# Altium integrated library Simulation Generic Components.IntLib: 218 symbols (part 6 of 7)
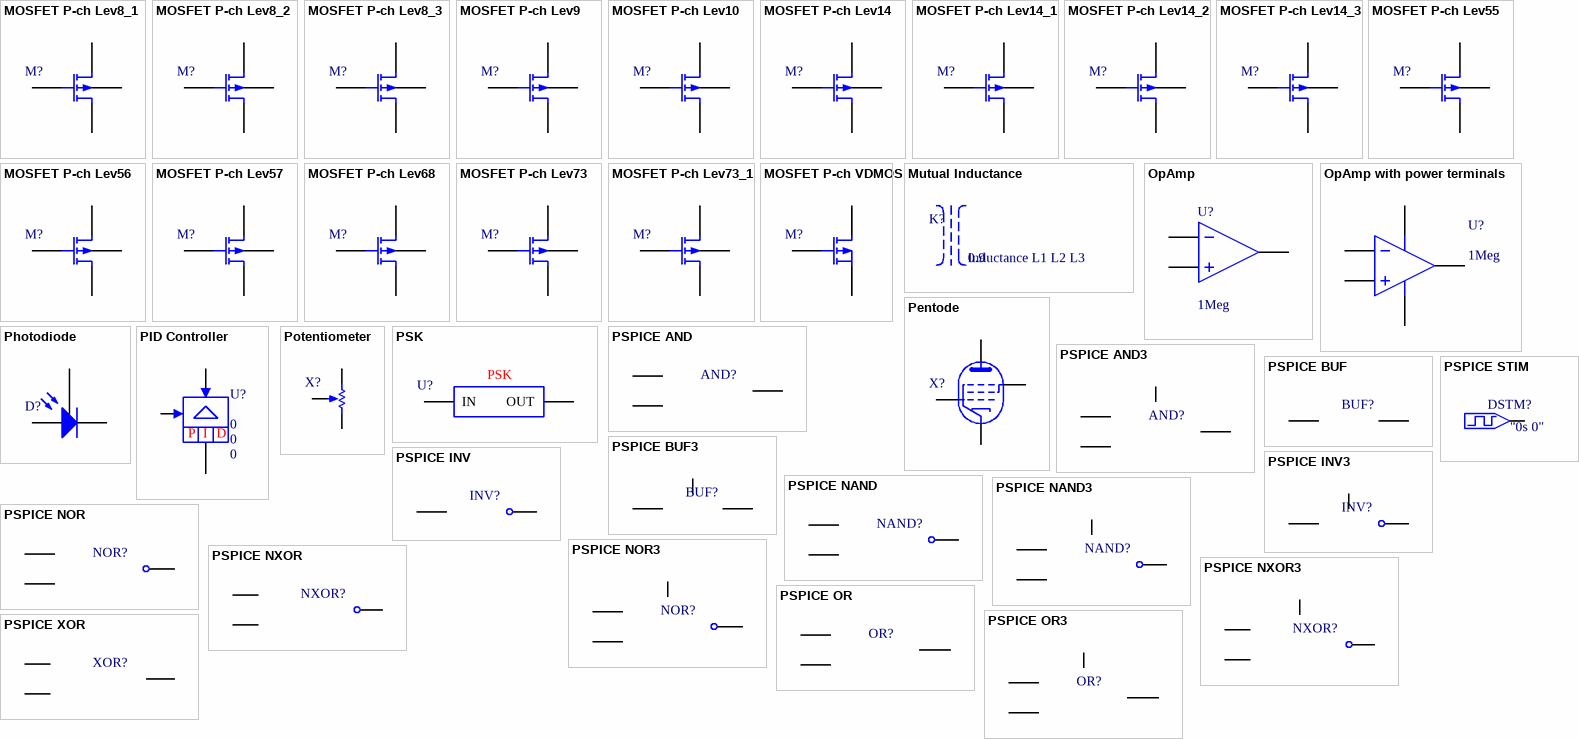
[diagram p10: symbols MOSFET P-ch Lev8_1 to PSPICE XOR]

## MOSFET P-ch Lev57
designator M?, comment P-channel MOSFET BSIM3SOI_PD Model  (value not drawn)
A0: 1; A1: 0; ALPHAGB1: 0.35; ALPHAGB2: 0.43; ASD: 0.3; AT: 33000; BETA2: 0.1; BETAGB1: 0.03; BETAGB2: 0.05; CAPMOD: 2; CDSC: 0.00024; CF: 8.16367e-11; CGDO: 2.07188e-10; CJSWG: 1e-10; CKAPPA: 0.6; CLC: 1e-08; DELTA: 0.01; DELTAVOX: 0.005; DROUT: 0.56; DVT0: 2.2; DVT1: 0.53; DVT1W: 5.3e06; DVT2: -0.032; EBG: 1.2; EM: 4.1e07; ESATII: 1e07; ETA0: 0.08; ETAB: -0.07; ISBJT: 1e-06; ISREC: 1e-05; KETA: -0.6; KT1: -0.11; KT2: 0.022; LBJT0: 2e-07; LN: 2e-06; MJSWG: 0.5; MOIN: 15; NCH: 1.7e17; NDIF: -1; NLX: 1.74e-07; NOIA: 1e20; NOIB: 50000; NOIC: -1.4e-12; NRECR0: 10; NSUB: 6e16; PBSWG: 0.7; PCLM: 1.3; PDIBLC1: 0.39; PDIBLC2: 0.0086; RDSW: 100; RHALO: 1e15; TBOX: 3e-07; TNOM: 300.15; TOXREF: 2.5e-09; TSI: 1e-07; TT: 1e-12; U0: 0.067; UA: 2.25e-09; UA1: 4.31e-09; UB: 5.87e-19; UB1: -7.61e-18; UC: -4.65e-11; UC1: -5.6e-11; UTE: -1.5; VBM: -3; VDSATII0: 0.9; VECB: 0.026; VEVB: 0.075; VGB1: 300; VGB2: 17; VOFF: -0.08; VOXH: 5; VSAT: 80000; W0: 2.5e-06; XT: 1.55e-07; SimulationGenericComponent: True; A2: 1; ACDE: 1; AELY: 0; AF: 1; AGIDL: 0; AGS: 0; AHLI: 0; ALPHA0: 0; B0: 0; B1: 0; BETA0: 0; BETA1: 0; BGIDL: 0; BINUNIT: 1; CDSCB: 0; CDSCD: 0; CGDL: 0; CGEO: 0; CGSL: 0; CGSO: 2.07188e-10; CIT: 0; CLE: 0; CSDESW: 0; CSDMIN: 0; DELVT: 0; DLBG: 0; DLC: 0; DLCB: 0; DSUB: 0.56; DTOXCV: 0; DVT0W: 0; DVT2W: -0.032; DWB: 0; DWBC: 0; DWC: 0; DWG: 0; EF: 1; FBJTII: 0; FBODY: 1; GAMMA1: 0; GAMMA2: 0; IGMOD: 0; ISDIF: 0; ISTUN: 0; K1: 0; K1W1: 0; K1W2: 0; K2: 0; K3: 0; K3B: 0; KB1: 1; KETAS: 0; KF: 0; KT1L: 0; LA0: 0; LA1: 0; LA2: 0; LACDE: 0; LAELY: 0; LAGIDL: 0; LAGS: 0; LAHLI: 0; LALPHA0: 0; LB0: 0; LB1: 0; LBETA0: 0; LBETA1: 0; LBETA2: 0; LBGIDL: 0; LCDSC: 0; LCDSCB: 0; LCDSCD: 0; LCIT: 0; LDELTA: 0; LDELVT: 0; LDIF0: 1; LDROUT: 0; LDSUB: 0; LDVT0: 0; LDVT0W: 0; LDVT1: 0; LDVT1W: 0; LDVT2: 0; LDVT2W: 0; LDWB: 0; LDWG: 0; LESATII: 0; LETA0: 0; LETAB: 0; LFBJTII: 0; LII: 0; LINT: 0; LISBJT: 0; LISDIF: 0; LISREC: 0; LISTUN: 0; LK1: 0; LK1W1: 0; LK1W2: 0; LK2: 0; LK3: 0; LK3B: 0; LKB1: 0; LKETA: 0; LKETAS: 0; LL: 0; LLBJT0: 0; LLC: 0; LLII: 0; LLN: 1; LMOIN: 0; LNBJT: 0; LNCH: 0; LNDIODE: 0; LNFACTOR: 0; LNGATE: 0; LNGIDL: 0; LNLX: 0; LNRECF0: 0; LNRECR0: 0; LNSUB: 0; LNTUN: 0; LPCLM: 0; LPDIBLC1: 0; LPDIBLC2: 0; LPDIBLCB: 0; LPRWB: 0; LPRWG: 0; LPVAG: 0; LRDSW: 0; LSII0: 0; LSII1: 0; LSII2: 0; LSIID: 0; LU0: 0; LUA: 0; LUB: 0; LUC: 0; LVABJT: 0; LVDSATII0: 0; LVOFF: 0; LVREC0: 0; LVSAT: 0; LVSDFB: 0; LVSDTH: 0; LVTH0: 0; LVTUN0: 0; LW: 0; LW0: 0; LWC: 0; LWL: 0; LWLC: 0; LWN: 1; LWR: 0; MOBMOD: 1; NBJT: 1; NDIODE: 1; NFACTOR: 1; NGATE: 0; NGIDL: 1.2; NOIF: 1; NOIMOD: 1; NRECF0: 2; NTOX: 1; NTRECF: 0; NTRECR: 0; NTUN: 10; PA0: 0; PA1: 0; PA2: 0; PACDE: 0; PAELY: 0; PAGIDL: 0; PAGS: 0; PAHLI: 0; PALPHA0: 0; PARAMCHK: 0; PB0: 0; PB1: 0; PBETA0: 0; PBETA1: 0; PBETA2: 0; PBGIDL: 0; PCDSC: 0; PCDSCB: 0; PCDSCD: 0; PCIT: 0; PDELTA: 0; PDELVT: 0; PDIBLCB: 0; PDROUT: 0; PDSUB: 0; PDVT0: 0; PDVT0W: 0; PDVT1: 0; PDVT1W: 0; PDVT2: 0; PDVT2W: 0; PDWB: 0; PDWG: 0; PESATII: 0; PETA0: 0; PETAB: 0; PFBJTII: 0; PISBJT: 0; PISDIF: 0; PISREC: 0; PISTUN: 0; PK1: 0; PK1W1: 0; PK1W2: 0; PK2: 0; PK3: 0; PK3B: 0; PKB1: 0; PKETA: 0; PKETAS: 0; PLBJT0: 0; PLII: 0; PMOIN: 0; PNBJT: 0; PNCH: 0; PNDIODE: 0; PNFACTOR: 0; PNGATE: 0; PNGIDL: 0; PNLX: 0; PNRECF0: 0; PNRECR0: 0; PNSUB: 0; PNTUN: 0; PPCLM: 0; PPDIBLC1: 0; PPDIBLC2: 0; PPDIBLCB: 0; PPRWB: 0; PPRWG: 0; PPVAG: 0; PRDSW: 0; PRT: 0; PRWB: 0; PRWG: 0; PSII0: 0; PSII1: 0; PSII2: 0; PSIID: 0; PU0: 0; PUA: 0; PUB: 0; PUC: 0; PVABJT: 0; PVAG: 0; PVDSATII0: 0; PVOFF: 0; PVREC0: 0; PVSAT: 0; PVSDFB: 0; PVSDTH: 0; PVTH0: 0; PVTUN0: 0; PW0: 0; PWR: 0; RBODY: 0; RBSH: 0; RSH: 0; SHMOD: 0; SII0: 0.5; SII1: 0.1; SII2: 0; SIID: 0; TCJSWG: 0; TII: 0; TOX: 1e-08; TOXQM: 1e-08; TPBSWG: 0; VABJT: 10; VBX: 0; VERSION: 2; VREC0: 0; VSDFB: 0; VSDTH: 0; VTH0: 0.7; VTUN0: 0; WA0: 0; WA1: 0; WA2: 0; WACDE: 0; WAELY: 0; WAGIDL: 0; WAGS: 0; WAHLI: 0; WALPHA0: 0; WB0: 0; WB1: 0; WBETA0: 0; WBETA1: 0; WBETA2: 0; WBGIDL: 0; WCDSC: 0; WCDSCB: 0; WCDSCD: 0; WCIT: 0; WDELTA: 0; WDELVT: 0; WDROUT: 0; WDSUB: 0; WDVT0: 0; WDVT0W: 0; WDVT1: 0; WDVT1W: 0; WDVT2: 0; WDVT2W: 0; WDWB: 0; WDWG: 0; WESATII: 0; WETA0: 0; WETAB: 0; WFBJTII: 0; WINT: 0; WISBJT: 0; WISDIF: 0; WISREC: 0; WISTUN: 0; WK1: 0; WK1W1: 0; WK1W2: 0; WK2: 0; WK3: 0; WK3B: 0; WKB1: 0; WKETA: 0; WKETAS: 0; WL: 0; WLBJT0: 0; WLC: 0; WLII: 0; WLN: 1; WMOIN: 0; WNBJT: 0; WNCH: 0; WNDIODE: 0; WNFACTOR: 0; WNGATE: 0; WNGIDL: 0; WNLX: 0; WNRECF0: 0; WNRECR0: 0; WNSUB: 0; WNTUN: 0; WPCLM: 0; WPDIBLC1: 0; WPDIBLC2: 0; WPDIBLCB: 0; WPRWB: 0; WPRWG: 0; WPVAG: 0; WR: 1; WRDSW: 0; WSII0: 0; WSII1: 0; WSII2: 0; WSIID: 0; WTH0: 0; WU0: 0; WUA: 0; WUB: 0; WUC: 0; WVABJT: 0; WVDSATII0: 0; WVOFF: 0; WVREC0: 0; WVSAT: 0; WVSDFB: 0; WVSDTH: 0; WVTH0: 0; WVTUN0: 0; WW: 0; WW0: 0; WWC: 0; WWL: 0; WWLC: 0; WWN: 1; WWR: 0; XBJT: 1; XDIF: 1; XPART: 0; XREC: 1; XTUN: 0
simulation model PMOSFET_BSIM3SOI_PD (BSIM3SOI_PD)
pins: 1 D, 2 G, 3 S, 4 B

## MOSFET P-ch Lev68
designator M?, comment P-channel MOSFET HISIM2 Model  (value not drawn)
LOVER: 3e-08; BB: 2; BGTMP1: 9.025e-05; BGTMP2: 1e-07; BS1: 0; BS2: 0.9; CJ: 0.0005; CJSW: 5e-10; CLM1: 0.7; CLM3: 1; DDLTMAX: 10; DDRIFT: 1e-06; DEPLEAK: 0.5; DEPMUE0: 1000; DEPMUEBACK0: 100; DEPMUEPH0: 0.3; DEPMUEPH1: 5000; DEPMUETMP: 1.5; DEPVMAX: 3e07; DLY1: 1e-10; DLY3: 8e-07; EG0: 1.1785; FN1: 50; FN2: 0.00017; FVBS: 0.012; GBMIN: 1e-12; GIDL5: 0.2; GLEAK2: 1e07; GLEAK3: 0.06; GLEAK4: 4; GLEAK5: 7500; GLEAK6: 0.25; GLKB1: 5e-16; GLKSD1: 1e-15; GLKSD2: 5e06; GLKSD3: -5e06; IBPC1LP: -1; JS0: 5e-07; KAPPA: 3.9; LP: 1.5e-08; LPEXT: 1e-50; MJSW: 0.33; MUEPH1: 25000; MUESR1: 1e15; NDEPM: 1e17; NFALP: 1e-19; NFTRP: 1e10; NOVER: 1e19; NPEXT: 5e17; NSUBP: 1e18; OVMAG: 0.6; OVSLP: 2.1e-07; PARL2: 1e-08; PTP: 3.5; PZADD0: 0.02; RD23: 0.005; RDRQOVER: 100000; RDVD: 0.07; RTH0: 0.1; SHEMAX: 500; SUB1L: 0.0025; SUB2: 25; SUB2L: 2e-06; SVDS: 0.8; TNDEP: 2e-07; TNOM: 27; TOX: 3e-09; VBD_MAX: 1e99; VBI: 1.1; VBSMIN: -10.5; VDIFFJ: 0.0006; VGSMIN: -5; SimulationGenericComponent: True; CGBO: 0; CGDO: 0; CGSO: 0; CISB: 0; CISBD: 0; CISBK: 0; CISBKD: 0; CISBKS: 0; CISBS: 0; CIT: 0; CJD: 0.0005; CJS: 0.0005; CJSWD: 5e-10; CJSWG: 5e-10; CJSWGD: 5e-10; CJSWGS: 5e-10; CJSWS: 5e-10; CLM2: 2; CLM5: 1; CLM6: 0; COADOV: 1; CODDLT: 1; CODEP: 0; CODFM: 0; COERRREP: 1; COFLICK: 0; COGIDL: 0; COIGN: 0; COIIGS: 0; COIPRV: 1; COISTI: 0; COISUB: 0; COLDRIFT: 1; CONQS: 0; COOVLP: 1; COOVLPS: 0; COPPRV: 1; COQOVSM: 1; CORDRIFT: 1; CORSRD: 0; COSYM: 0; COTEMP: 0; COTHRML: 0; CTEMP: 0; CTEMPD: 0; CTEMPS: 0; CTH0: 1e-07; CVB: 0; CVBD: 0; CVBK: 0; CVBS: 0; CVDSOVER: 0; DDLTICT: 0; DDLTSLP: 10; DEPBB: 1; DEPETA: 0; DEPMUE1: 0; DEPMUEBACK1: 0; DEPVDSEF1: 2; DEPVDSEF2: 0.5; DEPVTMP: 0; DIVX: 0; DIVXD: 0; DIVXS: 0; DLY2: 0.7; DLYOV: 0; EGIG: 0; FALPH: 1; FN3: 0; GDL: 0; GDLD: 0; GDLP: 0; GDSLEAK: 0; GIDL1: 2; GIDL2: 3e07; GIDL3: 0.9; GIDL4: 0; GLEAK1: 50; GLEAK7: 1e-06; GLKB2: 1; GLKB3: 0; GLPART1: 0.5; IBPC1: 0; IBPC1L: 0; IBPC2: 0; IGTEMP2: 0; IGTEMP3: 0; INFO: 0; ISBREAK: 1e-12; JS0D: 5e-07; JS0S: 5e-07; JS0SW: 0; JS0SWD: 0; JS0SWS: 0; LBGTMP1: 0; LBGTMP2: 0; LBINN: 1; LCGBO: 0; LCGDO: 0; LCGSO: 0; LCISBK: 0; LCISBKD: 0; LCISBKS: 0; LCLM1: 0; LCLM2: 0; LCLM3: 0; LCVDSOVER: 0; LEG0: 0; LEVEL: 0; LFALPH: 0; LFN1: 0; LFN2: 0; LFN3: 0; LFVBS: 0; LGIDL1: 0; LGIDL2: 0; LGLEAK1: 0; LGLEAK2: 0; LGLEAK3: 0; LGLEAK6: 0; LGLKB1: 0; LGLKB2: 0; LGLKSD1: 0; LGLKSD2: 0; LIBPC1: 0; LIBPC2: 0; LJS0: 0; LJS0D: 0; LJS0S: 0; LJS0SW: 0; LJS0SWD: 0; LJS0SWS: 0; LL: 0; LLD: 0; LLN: 0; LMAX: 1; LMIN: 0; LMUECB0: 0; LMUECB1: 0; LMUEPH1: 0; LMUESR1: 0; LMUESTI1: 0; LMUESTI2: 0; LMUESTI3: 0; LMUETMP: 0; LNDEP: 0; LNFALP: 0; LNFTRP: 0; LNINV: 0; LNJ: 0; LNJD: 0; LNJS: 0; LNOVER: 0; LNOVERS: 0; LNPEXT: 0; LNSTI: 0; LNSUBC: 0; LNSUBP: 0; LNSUBPSTI1: 0; LNSUBPSTI2: 0; LNSUBPSTI3: 0; LPGD1: 0; LPOWRAT: 0; LRD: 0; LRD22: 0; LRD23: 0; LRD24: 0; LRDICT1: 0; LRDOV13: 0; LRDSLP1: 0; LRDVB: 0; LRDVD: 0; LRDVG11: 0; LRS: 0; LRTH0: 0; LSC1: 0; LSC2: 0; LSC3: 0; LSCP1: 0; LSCP2: 0; LSCP3: 0; LSCSTI1: 0; LSCSTI2: 0; LSUB1: 0; LSUB2: 0; LSVBS: 0; LSVDS: 0; LSVGS: 0; LVDIFFJ: 0; LVDIFFJD: 0; LVDIFFJS: 0; LVFBC: 0; LVFBOVER: 0; LVMAX: 0; LVOVER: 0; LVTHSTI: 0; LVTMP: 0; LWFC: 0; LWL2: 0; LWSTI: 0; LWVTH0: 0; MJ: 0.5; MJD: 0.5; MJS: 0.5; MJSWD: 0.33; MJSWG: 0.33; MJSWGD: 0.33; MJSWGS: 0.33; MJSWS: 0.33; MUECB0: 1000; MUECB1: 100; MUEPH0: 0.3; MUEPHL: 0; MUEPHS: 0; MUEPHW: 0; MUEPLP: 1; MUEPSP: 1; MUEPWP: 1; MUESLP: 1; MUESR0: 2; MUESRL: 0; MUESRW: 0; MUESTI1: 0; MUESTI2: 0; MUESTI3: 1; MUESWP: 1; MUETMP: 1.5; NDEP: 1; NDEPL: 0; NDEPLP: 1; NINV: 0.5; NINVD: 0; NINVDT1: 0; NINVDT2: 0; NINVDW: 0; NINVDWP: 1; NJ: 1; NJD: 1; NJS: 1; NJSW: 1; NJSWD: 1; NJSWS: 1; NOISE: 1; NOVERS: 1e17; NSTI: 5e17; NSUBC: 5e17; NSUBCW: 0; NSUBCWP: 1; NSUBP0: 0; NSUBPSTI1: 0; NSUBPSTI2: 0; NSUBPSTI3: 1; NSUBSUB: 1e15; NSUBWP: 1; PB: 1; PBD: 1; PBGTMP1: 0; PBGTMP2: 0; PBS: 1; PBSW: 1; PBSWD: 1; PBSWG: 1; PBSWGD: 1; PBSWGS: 1; PBSWS: 1; PCGBO: 0; PCGDO: 0; PCGSO: 0; PCISBK: 0; PCISBKD: 0; PCISBKS: 0; PCLM1: 0; PCLM2: 0; PCLM3: 0; PCVDSOVER: 0; PEG0: 0; PFALPH: 0; PFN1: 0; PFN2: 0; PFN3: 0; PFVBS: 0; PGD1: 0; PGD2: 0.3; PGD4: 0; PGIDL1: 0; PGIDL2: 0; PGLEAK1: 0; PGLEAK2: 0; PGLEAK3: 0; PGLEAK6: 0; PGLKB1: 0; PGLKB2: 0; PGLKSD1: 0; PGLKSD2: 0; PIBPC1: 0; PIBPC2: 0; PJS0: 0; PJS0D: 0; PJS0S: 0; PJS0SW: 0; PJS0SWD: 0; PJS0SWS: 0; PMUECB0: 0; PMUECB1: 0; PMUEPH1: 0; PMUESR1: 0; PMUESTI1: 0; PMUESTI2: 0; PMUESTI3: 0; PMUETMP: 0; PNDEP: 0; PNFALP: 0; PNFTRP: 0; PNINV: 0; PNJ: 0; PNJD: 0; PNJS: 0; PNOVER: 0; PNOVERS: 0; PNPEXT: 0; PNSTI: 0; PNSUBC: 0; PNSUBP: 0; PNSUBPSTI1: 0; PNSUBPSTI2: 0; PNSUBPSTI3: 0; POWRAT: 1; PPGD1: 0; PPOWRAT: 0; PRATTEMP1: 0; PRATTEMP2: 0; PRD: 0; PRD22: 0; PRD23: 0; PRD24: 0; PRDICT1: 0; PRDOV13: 0; PRDSLP1: 0; PRDVB: 0; PRDVD: 0; PRDVG11: 0; PRS: 0; PRTH0: 0; PSC1: 0; PSC2: 0; PSC3: 0; PSCP1: 0; PSCP2: 0; PSCP3: 0; PSCSTI1: 0; PSCSTI2: 0; PSUB1: 0; PSUB2: 0; PSVBS: 0; PSVDS: 0; PSVGS: 0; PT2: 0; PT4: 0; PT4P: 1; PTL: 0; PTLP: 1; PVDIFFJ: 0; PVDIFFJD: 0; PVDIFFJS: 0; PVFBC: 0; PVFBOVER: 0; PVMAX: 0; PVOVER: 0; PVTHSTI: 0; PVTMP: 0; PWFC: 0; PWL2: 0; PWSTI: 0; PWVTH0: 0; QDFTVD: 1; QME1: 0; QME2: 2; QME3: 0; QOVADD: 0; RD: 0; RD20: 0; RD21: 1; RD22: 0; RD22D: 0; RD23L: 0; RD23LP: 1; RD23S: 0; RD23SP: 1; RD24: 0; RD25: 0; RDICT1: 1; RDICT2: 0; RDOV11: 0; RDOV12: 1; RDOV13: 1; RDRBB: 1; RDRBBTMP: 0; RDRCAR: 1e-08; RDRCX: 0; RDRDJUNC: 1e-06; RDRDL1: 0; RDRDL2: 0; RDRMUE: 1000; RDRMUEL: 0; RDRMUELP: 1; RDRMUETMP: 0; RDRVMAX: 3e07; RDRVMAXL: 0; RDRVMAXLP: 1; RDRVMAXW: 0; RDRVMAXWP: 1; RDRVTMP: 0; RDS: 0; RDSLP1: 0; RDSLP2: 1; RDSP: 1; RDTEMP1: 0; RDTEMP2: 0; RDVB: 0; RDVDL: 0; RDVDLP: 1; RDVDS: 0; RDVDSP: 1; RDVDSUB: 0.3; RDVDTEMP1: 0; RDVDTEMP2: 0; RDVG11: 0; RDVG12: 100; RDVSUB: 1; RS: 0; RSH: 0; RSHG: 0; RTH0NF: 0; RTH0R: 0; RTH0W: 0; RTH0WP: 1; RTHTEMP1: 0; RTHTEMP2: 0; RWELL: 1000; SAREF: 1e-06; SBREF: 1e-06; SC1: 1; SC2: 0; SC3: 0; SC4: 0; SCP1: 1; SCP2: 0; SCP21: 0; SCP22: 0; SCP3: 0; SCSTI1: 0; SCSTI2: 0; SHOW: 0; SLG: 3e-08; SLGL: 0; SLGLP: 1; SUB1: 10; SUB1LP: 1; SUBLD1L: 0; SUBLD1LP: 1; SVBS: 0.5; SVBSL: 0; SVBSLP: 1; SVGS: 0.8; SVGSL: 0; SVGSLP: 1; SVGSW: 0; SVGSWP: 1; TCJBD: 0; TCJBDSW: 0; TCJBDSWG: 0; TCJBS: 0; TCJBSSW: 0; TCJBSSWG: 0; TPOLY: 2e-07; VBDR_MAX: 1e99; VBISUB: 0.7; VBS_MAX: 1e99; VBSR_MAX: 1e99; VDIFFJD: 0.0006; VDIFFJS: 0.0006; VDS_MAX: 1e99; VDSTI: 0; VERSION: 280; VFBC: -1; VFBOVER: 0; VGB_MAX: 1e99; VGBR_MAX: 1e99; VGD_MAX: 1e99; VGDR_MAX: 1e99; VGS_MAX: 1e99; VGSR_MAX: 1e99; VMAX: 1e07; VMAXT1: 0; VMAXT2: 0; VOVER: 0.3; VOVERP: 0.3; VOVERS: 0; VOVERSP: 0; VTHSTI: 0; VTMP: 0; VZADD0: 0.02; WBGTMP1: 0; WBGTMP2: 0; WBINN: 1; WCGBO: 0; WCGDO: 0; WCGSO: 0; WCISBK: 0; WCISBKD: 0; WCISBKS: 0; WCLM1: 0; WCLM2: 0; WCLM3: 0; WCVDSOVER: 0; WEG0: 0; WFALPH: 0; WFC: 0; WFN1: 0; WFN2: 0; WFN3: 0; WFVBS: 0; WGIDL1: 0; WGIDL2: 0; WGLEAK1: 0; WGLEAK2: 0; WGLEAK3: 0; WGLEAK6: 0; WGLKB1: 0; WGLKB2: 0; WGLKSD1: 0; WGLKSD2: 0; WIBPC1: 0; WIBPC2: 0; WJS0: 0; WJS0D: 0; WJS0S: 0; WJS0SW: 0; WJS0SWD: 0; WJS0SWS: 0; WL: 0; WL1: 0; WL1P: 1; WL2: 0; WL2P: 1; WLD: 0; WLN: 0; WMAX: 1; WMIN: 0; WMUECB0: 0; WMUECB1: 0; WMUEPH1: 0; WMUESR1: 0; WMUESTI1: 0; WMUESTI2: 0; WMUESTI3: 0; WMUETMP: 0; WNDEP: 0; WNFALP: 0; WNFTRP: 0; WNINV: 0; WNJ: 0; WNJD: 0; WNJS: 0; WNOVER: 0; WNOVERS: 0; WNPEXT: 0; WNSTI: 0; WNSUBC: 0; WNSUBP: 0; WNSUBPSTI1: 0; WNSUBPSTI2: 0; WNSUBPSTI3: 0; WPGD1: 0; WPOWRAT: 0; WRD: 0; WRD22: 0; WRD23: 0; WRD24: 0; WRDICT1: 0; WRDOV13: 0; WRDSLP1: 0; WRDVB: 0; WRDVD: 0; WRDVG11: 0; WRS: 0; WRTH0: 0; WSC1: 0; WSC2: 0; WSC3: 0; WSCP1: 0; WSCP2: 0; WSCP3: 0; WSCSTI1: 0; WSCSTI2: 0; WSTI: 0; WSTIL: 0; WSTILP: 1; WSTIW: 0; WSTIWP: 1; WSUB1: 0; WSUB2: 0; WSVBS: 0; WSVDS: 0; WSVGS: 0; WVDIFFJ: 0; WVDIFFJD: 0; WVDIFFJS: 0; WVFBC: 0; WVFBOVER: 0; WVMAX: 0; WVOVER: 0; WVTH0: 0; WVTHSTI: 0; WVTMP: 0; WWFC: 0; WWL2: 0; WWSTI: 0; WWVTH0: 0; XL: 0; XLD: 0; XLDLD: 1e-06; XPDV: 0; XPVDTH: 0; XPVDTHG: 0; XQY: 1e-08; XQY1: 0; XQY2: 2; XTI: 2; XTI2: 0; XTI2D: 0; XTI2S: 0; XTID: 2; XTIS: 2; XW: 0; XWD: 0; XWDC: 0; XWDLD: 0
simulation model PMOSFET_HISIM2 (HISIM_HV1 v1.2.4)
pins: 1 D, 2 G, 3 S, 4 B

## MOSFET P-ch Lev73
designator M?, comment P-channel MOSFET HISIM_HV1 v1.2.4 Model  (value not drawn)
BB: 2; BGTMP1: 9.025e-05; BGTMP2: 1e-07; BS1: 0; BS2: 0.9; CJ: 0.0005; CJSW: 5e-10; CLM1: 0.05; CLM3: 1; DDLTICT: 10; DDRIFT: 1e-06; DEPLEAK: 0.5; DEPMUE0: 1000; DEPMUEBACK0: 100; DEPMUEPH0: 0.3; DEPMUEPH1: 5000; DEPMUETMP: 1.5; DEPVMAX: 3e07; DLY1: 1e-10; DLY2: 0.7; DLY3: 8e-07; EG0: 1.1785; FN1: 50; FN2: 0.00017; FVBS: 0.012; GBMIN: 1e-12; GIDL5: 0.2; GLEAK2: 1e07; GLEAK3: 0.06; GLEAK4: 4; GLEAK5: 7500; GLEAK6: 0.25; GLKB1: 5e-16; GLKSD1: 1e-15; GLKSD3: -1000; IBPC1LP: -1; JS0: 5e-07; KAPPA: 3.9; LP: 1.5e-08; LPEXT: 1e-50; MJSW: 0.33; MPHDFM: -0.3; MUEPH1: 20000; MUESR1: 6e14; NDEPM: 1e17; NFALP: 1e-19; NFTRP: 1e10; NOVER: 3e16; NPEXT: 5e17; NSUBC: 3e17; NSUBP: 1e18; NSUBSUB: 1e15; OVMAG: 0.6; OVSLP: 2.1e-07; PARL2: 1e-08; PTP: 3.5; PZADD0: 0.005; RDRQOVER: 100000; RDVD: 0.07; RTH0: 0.1; SHEMAX: 500; SLG: 3e-08; SUB1L: 0.0025; SUB2: 25; SUB2L: 2e-06; SVDS: 0.8; TNDEP: 2e-07; TNOM: 27; TOX: 7e-09; VBD_MAX: 1e99; VBI: 1.1; VBSMIN: -10.5; VDIFFJ: 0.0006; VFBOVER: -0.5; VGSMIN: -100; VZADD0: 0.01; SimulationGenericComponent: True; CGBO: 0; CGDO: 0; CGSO: 0; CISB: 0; CISBD: 0; CISBK: 0; CISBKD: 0; CISBKS: 0; CISBS: 0; CIT: 0; CJD: 0.0005; CJS: 0.0005; CJSWD: 5e-10; CJSWG: 5e-10; CJSWGD: 5e-10; CJSWGS: 5e-10; CJSWS: 5e-10; CLM2: 2; CLM5: 1; CLM6: 0; COADOV: 1; CODDLT: 1; CODEP: 0; CODFM: 0; COERRREP: 1; COFLICK: 0; COGIDL: 0; COIGN: 0; COIIGS: 0; COIPRV: 1; COISTI: 0; COISUB: 0; COLDRIFT: 1; CONQS: 0; COOVLP: 1; COOVLPS: 0; COPPRV: 1; COQOVSM: 1; CORDRIFT: 1; CORSRD: 0; COSYM: 0; COTEMP: 0; COTHRML: 0; CTEMP: 0; CTEMPD: 0; CTEMPS: 0; CTH0: 1e-07; CVB: 0; CVBD: 0; CVBK: 0; CVBS: 0; CVDSOVER: 0; DDLTMAX: 10; DDLTSLP: 0; DEPBB: 1; DEPETA: 0; DEPMUE1: 0; DEPMUEBACK1: 0; DEPVDSEF1: 2; DEPVDSEF2: 0.5; DEPVTMP: 0; DIVX: 0; DIVXD: 0; DIVXS: 0; DLYOV: 0; EGIG: 0; FALPH: 1; FN3: 0; GDL: 0; GDLD: 0; GDLP: 0; GDSLEAK: 0; GIDL1: 2; GIDL2: 3e07; GIDL3: 0.9; GIDL4: 0; GLEAK1: 50; GLEAK7: 1e-06; GLKB2: 1; GLKB3: 0; GLKSD2: 1000; GLPART1: 0.5; IBPC1: 0; IBPC1L: 0; IBPC2: 0; IGTEMP2: 0; IGTEMP3: 0; INFO: 0; ISBREAK: 1e-12; JS0D: 5e-07; JS0S: 5e-07; JS0SW: 0; JS0SWD: 0; JS0SWS: 0; LBGTMP1: 0; LBGTMP2: 0; LBINN: 1; LCGBO: 0; LCGDO: 0; LCGSO: 0; LCISBK: 0; LCISBKD: 0; LCISBKS: 0; LCLM1: 0; LCLM2: 0; LCLM3: 0; LCVDSOVER: 0; LEG0: 0; LEVEL: 0; LFALPH: 0; LFN1: 0; LFN2: 0; LFN3: 0; LFVBS: 0; LGIDL1: 0; LGIDL2: 0; LGLEAK1: 0; LGLEAK2: 0; LGLEAK3: 0; LGLEAK6: 0; LGLKB1: 0; LGLKB2: 0; LGLKSD1: 0; LGLKSD2: 0; LIBPC1: 0; LIBPC2: 0; LJS0: 0; LJS0D: 0; LJS0S: 0; LJS0SW: 0; LJS0SWD: 0; LJS0SWS: 0; LL: 0; LLD: 0; LLN: 0; LMAX: 1; LMIN: 0; LMUECB0: 0; LMUECB1: 0; LMUEPH1: 0; LMUESR1: 0; LMUESTI1: 0; LMUESTI2: 0; LMUESTI3: 0; LMUETMP: 0; LNDEP: 0; LNFALP: 0; LNFTRP: 0; LNINV: 0; LNJ: 0; LNJD: 0; LNJS: 0; LNOVER: 0; LNOVERS: 0; LNPEXT: 0; LNSTI: 0; LNSUBC: 0; LNSUBP: 0; LNSUBPSTI1: 0; LNSUBPSTI2: 0; LNSUBPSTI3: 0; LPGD1: 0; LPOWRAT: 0; LRD: 0; LRD22: 0; LRD23: 0; LRD24: 0; LRDICT1: 0; LRDOV13: 0; LRDSLP1: 0; LRDVB: 0; LRDVD: 0; LRDVG11: 0; LRS: 0; LRTH0: 0; LSC1: 0; LSC2: 0; LSC3: 0; LSCP1: 0; LSCP2: 0; LSCP3: 0; LSCSTI1: 0; LSCSTI2: 0; LSUB1: 0; LSUB2: 0; LSVBS: 0; LSVDS: 0; LSVGS: 0; LVDIFFJ: 0; LVDIFFJD: 0; LVDIFFJS: 0; LVFBC: 0; LVFBOVER: 0; LVMAX: 0; LVOVER: 0; LVTHSTI: 0; LVTMP: 0; LWFC: 0; LWL2: 0; LWSTI: 0; LWVTH0: 0; MJ: 0.5; MJD: 0.5; MJS: 0.5; MJSWD: 0.33; MJSWG: 0.33; MJSWGD: 0.33; MJSWGS: 0.33; MJSWS: 0.33; MUECB0: 1000; MUECB1: 100; MUEPH0: 0.3; MUEPHL: 0; MUEPHS: 0; MUEPHW: 0; MUEPLP: 1; MUEPSP: 1; MUEPWP: 1; MUESLP: 1; MUESR0: 2; MUESRL: 0; MUESRW: 0; MUESTI1: 0; MUESTI2: 0; MUESTI3: 1; MUESWP: 1; MUETMP: 1.5; NDEP: 1; NDEPL: 0; NDEPLP: 1; NINV: 0.5; NINVD: 0; NINVDT1: 0; NINVDT2: 0; NINVDW: 0; NINVDWP: 1; NJ: 1; NJD: 1; NJS: 1; NJSW: 1; NJSWD: 1; NJSWS: 1; NOISE: 1; NOVERS: 1e17; NSTI: 5e17; NSUBCW: 0; NSUBCWP: 1; NSUBP0: 0; NSUBPSTI1: 0; NSUBPSTI2: 0; NSUBPSTI3: 1; NSUBWP: 1; PB: 1; PBD: 1; PBGTMP1: 0; PBGTMP2: 0; PBS: 1; PBSW: 1; PBSWD: 1; PBSWG: 1; PBSWGD: 1; PBSWGS: 1; PBSWS: 1; PCGBO: 0; PCGDO: 0; PCGSO: 0; PCISBK: 0; PCISBKD: 0; PCISBKS: 0; PCLM1: 0; PCLM2: 0; PCLM3: 0; PCVDSOVER: 0; PEG0: 0; PFALPH: 0; PFN1: 0; PFN2: 0; PFN3: 0; PFVBS: 0; PGD1: 0; PGD2: 1; PGD4: 0; PGIDL1: 0; PGIDL2: 0; PGLEAK1: 0; PGLEAK2: 0; PGLEAK3: 0; PGLEAK6: 0; PGLKB1: 0; PGLKB2: 0; PGLKSD1: 0; PGLKSD2: 0; PIBPC1: 0; PIBPC2: 0; PJS0: 0; PJS0D: 0; PJS0S: 0; PJS0SW: 0; PJS0SWD: 0; PJS0SWS: 0; PMUECB0: 0; PMUECB1: 0; PMUEPH1: 0; PMUESR1: 0; PMUESTI1: 0; PMUESTI2: 0; PMUESTI3: 0; PMUETMP: 0; PNDEP: 0; PNFALP: 0; PNFTRP: 0; PNINV: 0; PNJ: 0; PNJD: 0; PNJS: 0; PNOVER: 0; PNOVERS: 0; PNPEXT: 0; PNSTI: 0; PNSUBC: 0; PNSUBP: 0; PNSUBPSTI1: 0; PNSUBPSTI2: 0; PNSUBPSTI3: 0; POWRAT: 1; PPGD1: 0; PPOWRAT: 0; PRATTEMP1: 0; PRATTEMP2: 0; PRD: 0; PRD22: 0; PRD23: 0; PRD24: 0; PRDICT1: 0; PRDOV13: 0; PRDSLP1: 0; PRDVB: 0; PRDVD: 0; PRDVG11: 0; PRS: 0; PRTH0: 0; PSC1: 0; PSC2: 0; PSC3: 0; PSCP1: 0; PSCP2: 0; PSCP3: 0; PSCSTI1: 0; PSCSTI2: 0; PSUB1: 0; PSUB2: 0; PSVBS: 0; PSVDS: 0; PSVGS: 0; PT2: 0; PT4: 0; PT4P: 1; PTL: 0; PTLP: 1; PVDIFFJ: 0; PVDIFFJD: 0; PVDIFFJS: 0; PVFBC: 0; PVFBOVER: 0; PVMAX: 0; PVOVER: 0; PVTHSTI: 0; PVTMP: 0; PWFC: 0; PWL2: 0; PWSTI: 0; PWVTH0: 0; QDFTVD: 1; QME1: 0; QME2: 2; QME3: 0; QOVADD: 0; RD: 0; RD20: 0; RD21: 1; RD22: 0; RD22D: 0; RD23: 0.005; RD23L: 0; RD23LP: 1; RD23S: 0; RD23SP: 1; RD24: 0; RD25: 0; RDICT1: 1; RDICT2: 0; RDOV11: 0; RDOV12: 1; RDOV13: 1; RDRBB: 1; RDRBBTMP: 0; RDRCAR: 1e-08; RDRCX: 0; RDRDJUNC: 1e-06; RDRDL1: 0; RDRDL2: 0; RDRMUE: 1000; RDRMUEL: 0; RDRMUELP: 1; RDRMUETMP: 0; RDRVMAX: 3e07; RDRVMAXL: 0; RDRVMAXLP: 1; RDRVMAXW: 0; RDRVMAXWP: 1; RDRVTMP: 0; RDS: 0; RDSLP1: 0; RDSLP2: 1; RDSP: 1; RDTEMP1: 0; RDTEMP2: 0; RDVB: 0; RDVDL: 0; RDVDLP: 1; RDVDS: 0; RDVDSP: 1; RDVDSUB: 0.3; RDVDTEMP1: 0; RDVDTEMP2: 0; RDVG11: 0; RDVG12: 100; RDVSUB: 1; RS: 0; RSH: 0; RSHG: 0; RTH0NF: 0; RTH0R: 0; RTH0W: 0; RTH0WP: 1; RTHTEMP1: 0; RTHTEMP2: 0; RWELL: 1000; SAREF: 1e-06; SBREF: 1e-06; SC1: 0; SC2: 0; SC3: 0; SC4: 0; SCP1: 0; SCP2: 0; SCP21: 0; SCP22: 0; SCP3: 0; SCSTI1: 0; SCSTI2: 0; SHOW: 0; SLGL: 0; SLGLP: 1; SUB1: 10; SUB1LP: 1; SUBLD1L: 0; SUBLD1LP: 1; SVBS: 0.5; SVBSL: 0; SVBSLP: 1; SVGS: 0.8; SVGSL: 0; SVGSLP: 1; SVGSW: 0; SVGSWP: 1; TCJBD: 0; TCJBDSW: 0; TCJBDSWG: 0; TCJBS: 0; TCJBSSW: 0; TCJBSSWG: 0; TPOLY: 2e-07; VBDR_MAX: 1e99; VBISUB: 0.7; VBS_MAX: 1e99; VBSR_MAX: 1e99; VDIFFJD: 0.0006; VDIFFJS: 0.0006; VDS_MAX: 1e99; VDSTI: 0; VERSION: 2.20; VFBC: -1; VGB_MAX: 1e99; VGBR_MAX: 1e99; VGD_MAX: 1e99; VGDR_MAX: 1e99; VGS_MAX: 1e99; VGSR_MAX: 1e99; VMAX: 1e07; VMAXT1: 0; VMAXT2: 0; VOVER: 0.3; VOVERP: 0.3; VOVERS: 0; VOVERSP: 0; VTHSTI: 0; VTMP: 0; WBGTMP1: 0; WBGTMP2: 0; WBINN: 1; WCGBO: 0; WCGDO: 0; WCGSO: 0; WCISBK: 0; WCISBKD: 0; WCISBKS: 0; WCLM1: 0; WCLM2: 0; WCLM3: 0; WCVDSOVER: 0; WEG0: 0; WFALPH: 0; WFC: 0; WFN1: 0; WFN2: 0; WFN3: 0; WFVBS: 0; WGIDL1: 0; WGIDL2: 0; WGLEAK1: 0; WGLEAK2: 0; WGLEAK3: 0; WGLEAK6: 0; WGLKB1: 0; WGLKB2: 0; WGLKSD1: 0; WGLKSD2: 0; WIBPC1: 0; WIBPC2: 0; WJS0: 0; WJS0D: 0; WJS0S: 0; WJS0SW: 0; WJS0SWD: 0; WJS0SWS: 0; WL: 0; WL1: 0; WL1P: 1; WL2: 0; WL2P: 1; WLD: 0; WLN: 0; WMAX: 1; WMIN: 0; WMUECB0: 0; WMUECB1: 0; WMUEPH1: 0; WMUESR1: 0; WMUESTI1: 0; WMUESTI2: 0; WMUESTI3: 0; WMUETMP: 0; WNDEP: 0; WNFALP: 0; WNFTRP: 0; WNINV: 0; WNJ: 0; WNJD: 0; WNJS: 0; WNOVER: 0; WNOVERS: 0; WNPEXT: 0; WNSTI: 0; WNSUBC: 0; WNSUBP: 0; WNSUBPSTI1: 0; WNSUBPSTI2: 0; WNSUBPSTI3: 0; WPGD1: 0; WPOWRAT: 0; WRD: 0; WRD22: 0; WRD23: 0; WRD24: 0; WRDICT1: 0; WRDOV13: 0; WRDSLP1: 0; WRDVB: 0; WRDVD: 0; WRDVG11: 0; WRS: 0; WRTH0: 0; WSC1: 0; WSC2: 0; WSC3: 0; WSCP1: 0; WSCP2: 0; WSCP3: 0; WSCSTI1: 0; WSCSTI2: 0; WSTI: 0; WSTIL: 0; WSTILP: 1; WSTIW: 0; WSTIWP: 1; WSUB1: 0; WSUB2: 0; WSVBS: 0; WSVDS: 0; WSVGS: 0; WVDIFFJ: 0; WVDIFFJD: 0; WVDIFFJS: 0; WVFBC: 0; WVFBOVER: 0; WVMAX: 0; WVOVER: 0; WVTH0: 0; WVTHSTI: 0; WVTMP: 0; WWFC: 0; WWL2: 0; WWSTI: 0; WWVTH0: 0; XL: 0; XLD: 0; XLDLD: 1e-06; XPDV: 0; XPVDTH: 0; XPVDTHG: 0; XQY: 0; XQY1: 0; XQY2: 2; XTI: 2; XTI2: 0; XTI2D: 0; XTI2S: 0; XTID: 2; XTIS: 2; XW: 0; XWD: 0; XWDC: 0; XWDLD: 0
simulation model PMOSFET_HISIM_HV1 (HISIM_HV1 v1.2.4)
pins: 1 D, 2 G, 3 S, 4 B

## MOSFET P-ch Lev73_1
designator M?, comment P-channel MOSFET HISIM_HV2 v2.2.0 Model  (value not drawn)
BB: 2; BGTMP1: 9.025e-05; BGTMP2: 1e-07; BS1: 0; BS2: 0.9; CJ: 0.0005; CJSW: 5e-10; CLM1: 0.05; CLM3: 1; DDLTICT: 10; DDRIFT: 1e-06; DEPLEAK: 0.5; DEPMUE0: 1000; DEPMUEBACK0: 100; DEPMUEPH0: 0.3; DEPMUEPH1: 5000; DEPMUETMP: 1.5; DEPVMAX: 3e07; DLY1: 1e-10; DLY2: 0.7; DLY3: 8e-07; EG0: 1.1785; FN1: 50; FN2: 0.00017; FVBS: 0.012; GBMIN: 1e-12; GIDL5: 0.2; GLEAK2: 1e07; GLEAK3: 0.06; GLEAK4: 4; GLEAK5: 7500; GLEAK6: 0.25; GLKB1: 5e-16; GLKSD1: 1e-15; GLKSD3: -1000; IBPC1LP: -1; JS0: 5e-07; KAPPA: 3.9; LP: 1.5e-08; LPEXT: 1e-50; MJSW: 0.33; MPHDFM: -0.3; MUEPH1: 20000; MUESR1: 6e14; NDEPM: 1e17; NFALP: 1e-19; NFTRP: 1e10; NOVER: 3e16; NPEXT: 5e17; NSUBC: 3e17; NSUBP: 1e18; NSUBSUB: 1e15; OVMAG: 0.6; OVSLP: 2.1e-07; PARL2: 1e-08; PTP: 3.5; PZADD0: 0.005; RDRQOVER: 100000; RDVD: 0.07; RTH0: 0.1; SHEMAX: 500; SLG: 3e-08; SUB1L: 0.0025; SUB2: 25; SUB2L: 2e-06; SVDS: 0.8; TNDEP: 2e-07; TNOM: 27; TOX: 7e-09; VBD_MAX: 1e99; VBI: 1.1; VBSMIN: -10.5; VDIFFJ: 0.0006; VFBOVER: -0.5; VGSMIN: -100; VZADD0: 0.01; SimulationGenericComponent: True; CGBO: 0; CGDO: 0; CGSO: 0; CISB: 0; CISBD: 0; CISBK: 0; CISBKD: 0; CISBKS: 0; CISBS: 0; CIT: 0; CJD: 0.0005; CJS: 0.0005; CJSWD: 5e-10; CJSWG: 5e-10; CJSWGD: 5e-10; CJSWGS: 5e-10; CJSWS: 5e-10; CLM2: 2; CLM5: 1; CLM6: 0; COADOV: 1; CODDLT: 1; CODEP: 0; CODFM: 0; COERRREP: 1; COFLICK: 0; COGIDL: 0; COIGN: 0; COIIGS: 0; COIPRV: 1; COISTI: 0; COISUB: 0; COLDRIFT: 1; CONQS: 0; COOVLP: 1; COOVLPS: 0; COPPRV: 1; COQOVSM: 1; CORDRIFT: 1; CORSRD: 0; COSYM: 0; COTEMP: 0; COTHRML: 0; CTEMP: 0; CTEMPD: 0; CTEMPS: 0; CTH0: 1e-07; CVB: 0; CVBD: 0; CVBK: 0; CVBS: 0; CVDSOVER: 0; DDLTMAX: 10; DDLTSLP: 0; DEPBB: 1; DEPETA: 0; DEPMUE1: 0; DEPMUEBACK1: 0; DEPVDSEF1: 2; DEPVDSEF2: 0.5; DEPVTMP: 0; DIVX: 0; DIVXD: 0; DIVXS: 0; DLYOV: 0; EGIG: 0; FALPH: 1; FN3: 0; GDL: 0; GDLD: 0; GDLP: 0; GDSLEAK: 0; GIDL1: 2; GIDL2: 3e07; GIDL3: 0.9; GIDL4: 0; GLEAK1: 50; GLEAK7: 1e-06; GLKB2: 1; GLKB3: 0; GLKSD2: 1000; GLPART1: 0.5; IBPC1: 0; IBPC1L: 0; IBPC2: 0; IGTEMP2: 0; IGTEMP3: 0; INFO: 0; ISBREAK: 1e-12; JS0D: 5e-07; JS0S: 5e-07; JS0SW: 0; JS0SWD: 0; JS0SWS: 0; LBGTMP1: 0; LBGTMP2: 0; LBINN: 1; LCGBO: 0; LCGDO: 0; LCGSO: 0; LCISBK: 0; LCISBKD: 0; LCISBKS: 0; LCLM1: 0; LCLM2: 0; LCLM3: 0; LCVDSOVER: 0; LEG0: 0; LEVEL: 0; LFALPH: 0; LFN1: 0; LFN2: 0; LFN3: 0; LFVBS: 0; LGIDL1: 0; LGIDL2: 0; LGLEAK1: 0; LGLEAK2: 0; LGLEAK3: 0; LGLEAK6: 0; LGLKB1: 0; LGLKB2: 0; LGLKSD1: 0; LGLKSD2: 0; LIBPC1: 0; LIBPC2: 0; LJS0: 0; LJS0D: 0; LJS0S: 0; LJS0SW: 0; LJS0SWD: 0; LJS0SWS: 0; LL: 0; LLD: 0; LLN: 0; LMAX: 1; LMIN: 0; LMUECB0: 0; LMUECB1: 0; LMUEPH1: 0; LMUESR1: 0; LMUESTI1: 0; LMUESTI2: 0; LMUESTI3: 0; LMUETMP: 0; LNDEP: 0; LNFALP: 0; LNFTRP: 0; LNINV: 0; LNJ: 0; LNJD: 0; LNJS: 0; LNOVER: 0; LNOVERS: 0; LNPEXT: 0; LNSTI: 0; LNSUBC: 0; LNSUBP: 0; LNSUBPSTI1: 0; LNSUBPSTI2: 0; LNSUBPSTI3: 0; LPGD1: 0; LPOWRAT: 0; LRD: 0; LRD22: 0; LRD23: 0; LRD24: 0; LRDICT1: 0; LRDOV13: 0; LRDSLP1: 0; LRDVB: 0; LRDVD: 0; LRDVG11: 0; LRS: 0; LRTH0: 0; LSC1: 0; LSC2: 0; LSC3: 0; LSCP1: 0; LSCP2: 0; LSCP3: 0; LSCSTI1: 0; LSCSTI2: 0; LSUB1: 0; LSUB2: 0; LSVBS: 0; LSVDS: 0; LSVGS: 0; LVDIFFJ: 0; LVDIFFJD: 0; LVDIFFJS: 0; LVFBC: 0; LVFBOVER: 0; LVMAX: 0; LVOVER: 0; LVTHSTI: 0; LVTMP: 0; LWFC: 0; LWL2: 0; LWSTI: 0; LWVTH0: 0; MJ: 0.5; MJD: 0.5; MJS: 0.5; MJSWD: 0.33; MJSWG: 0.33; MJSWGD: 0.33; MJSWGS: 0.33; MJSWS: 0.33; MUECB0: 1000; MUECB1: 100; MUEPH0: 0.3; MUEPHL: 0; MUEPHS: 0; MUEPHW: 0; MUEPLP: 1; MUEPSP: 1; MUEPWP: 1; MUESLP: 1; MUESR0: 2; MUESRL: 0; MUESRW: 0; MUESTI1: 0; MUESTI2: 0; MUESTI3: 1; MUESWP: 1; MUETMP: 1.5; NDEP: 1; NDEPL: 0; NDEPLP: 1; NINV: 0.5; NINVD: 0; NINVDT1: 0; NINVDT2: 0; NINVDW: 0; NINVDWP: 1; NJ: 1; NJD: 1; NJS: 1; NJSW: 1; NJSWD: 1; NJSWS: 1; NOISE: 1; NOVERS: 1e17; NSTI: 5e17; NSUBCW: 0; NSUBCWP: 1; NSUBP0: 0; NSUBPSTI1: 0; NSUBPSTI2: 0; NSUBPSTI3: 1; NSUBWP: 1; PB: 1; PBD: 1; PBGTMP1: 0; PBGTMP2: 0; PBS: 1; PBSW: 1; PBSWD: 1; PBSWG: 1; PBSWGD: 1; PBSWGS: 1; PBSWS: 1; PCGBO: 0; PCGDO: 0; PCGSO: 0; PCISBK: 0; PCISBKD: 0; PCISBKS: 0; PCLM1: 0; PCLM2: 0; PCLM3: 0; PCVDSOVER: 0; PEG0: 0; PFALPH: 0; PFN1: 0; PFN2: 0; PFN3: 0; PFVBS: 0; PGD1: 0; PGD2: 1; PGD4: 0; PGIDL1: 0; PGIDL2: 0; PGLEAK1: 0; PGLEAK2: 0; PGLEAK3: 0; PGLEAK6: 0; PGLKB1: 0; PGLKB2: 0; PGLKSD1: 0; PGLKSD2: 0; PIBPC1: 0; PIBPC2: 0; PJS0: 0; PJS0D: 0; PJS0S: 0; PJS0SW: 0; PJS0SWD: 0; PJS0SWS: 0; PMUECB0: 0; PMUECB1: 0; PMUEPH1: 0; PMUESR1: 0; PMUESTI1: 0; PMUESTI2: 0; PMUESTI3: 0; PMUETMP: 0; PNDEP: 0; PNFALP: 0; PNFTRP: 0; PNINV: 0; PNJ: 0; PNJD: 0; PNJS: 0; PNOVER: 0; PNOVERS: 0; PNPEXT: 0; PNSTI: 0; PNSUBC: 0; PNSUBP: 0; PNSUBPSTI1: 0; PNSUBPSTI2: 0; PNSUBPSTI3: 0; POWRAT: 1; PPGD1: 0; PPOWRAT: 0; PRATTEMP1: 0; PRATTEMP2: 0; PRD: 0; PRD22: 0; PRD23: 0; PRD24: 0; PRDICT1: 0; PRDOV13: 0; PRDSLP1: 0; PRDVB: 0; PRDVD: 0; PRDVG11: 0; PRS: 0; PRTH0: 0; PSC1: 0; PSC2: 0; PSC3: 0; PSCP1: 0; PSCP2: 0; PSCP3: 0; PSCSTI1: 0; PSCSTI2: 0; PSUB1: 0; PSUB2: 0; PSVBS: 0; PSVDS: 0; PSVGS: 0; PT2: 0; PT4: 0; PT4P: 1; PTL: 0; PTLP: 1; PVDIFFJ: 0; PVDIFFJD: 0; PVDIFFJS: 0; PVFBC: 0; PVFBOVER: 0; PVMAX: 0; PVOVER: 0; PVTHSTI: 0; PVTMP: 0; PWFC: 0; PWL2: 0; PWSTI: 0; PWVTH0: 0; QDFTVD: 1; QME1: 0; QME2: 2; QME3: 0; QOVADD: 0; RD: 0; RD20: 0; RD21: 1; RD22: 0; RD22D: 0; RD23: 0.005; RD23L: 0; RD23LP: 1; RD23S: 0; RD23SP: 1; RD24: 0; RD25: 0; RDICT1: 1; RDICT2: 0; RDOV11: 0; RDOV12: 1; RDOV13: 1; RDRBB: 1; RDRBBTMP: 0; RDRCAR: 1e-08; RDRCX: 0; RDRDJUNC: 1e-06; RDRDL1: 0; RDRDL2: 0; RDRMUE: 1000; RDRMUEL: 0; RDRMUELP: 1; RDRMUETMP: 0; RDRVMAX: 3e07; RDRVMAXL: 0; RDRVMAXLP: 1; RDRVMAXW: 0; RDRVMAXWP: 1; RDRVTMP: 0; RDS: 0; RDSLP1: 0; RDSLP2: 1; RDSP: 1; RDTEMP1: 0; RDTEMP2: 0; RDVB: 0; RDVDL: 0; RDVDLP: 1; RDVDS: 0; RDVDSP: 1; RDVDSUB: 0.3; RDVDTEMP1: 0; RDVDTEMP2: 0; RDVG11: 0; RDVG12: 100; RDVSUB: 1; RS: 0; RSH: 0; RSHG: 0; RTH0NF: 0; RTH0R: 0; RTH0W: 0; RTH0WP: 1; RTHTEMP1: 0; RTHTEMP2: 0; RWELL: 1000; SAREF: 1e-06; SBREF: 1e-06; SC1: 0; SC2: 0; SC3: 0; SC4: 0; SCP1: 0; SCP2: 0; SCP21: 0; SCP22: 0; SCP3: 0; SCSTI1: 0; SCSTI2: 0; SHOW: 0; SLGL: 0; SLGLP: 1; SUB1: 10; SUB1LP: 1; SUBLD1L: 0; SUBLD1LP: 1; SVBS: 0.5; SVBSL: 0; SVBSLP: 1; SVGS: 0.8; SVGSL: 0; SVGSLP: 1; SVGSW: 0; SVGSWP: 1; TCJBD: 0; TCJBDSW: 0; TCJBDSWG: 0; TCJBS: 0; TCJBSSW: 0; TCJBSSWG: 0; TPOLY: 2e-07; VBDR_MAX: 1e99; VBISUB: 0.7; VBS_MAX: 1e99; VBSR_MAX: 1e99; VDIFFJD: 0.0006; VDIFFJS: 0.0006; VDS_MAX: 1e99; VDSTI: 0; VERSION: 2.20; VFBC: -1; VGB_MAX: 1e99; VGBR_MAX: 1e99; VGD_MAX: 1e99; VGDR_MAX: 1e99; VGS_MAX: 1e99; VGSR_MAX: 1e99; VMAX: 1e07; VMAXT1: 0; VMAXT2: 0; VOVER: 0.3; VOVERP: 0.3; VOVERS: 0; VOVERSP: 0; VTHSTI: 0; VTMP: 0; WBGTMP1: 0; WBGTMP2: 0; WBINN: 1; WCGBO: 0; WCGDO: 0; WCGSO: 0; WCISBK: 0; WCISBKD: 0; WCISBKS: 0; WCLM1: 0; WCLM2: 0; WCLM3: 0; WCVDSOVER: 0; WEG0: 0; WFALPH: 0; WFC: 0; WFN1: 0; WFN2: 0; WFN3: 0; WFVBS: 0; WGIDL1: 0; WGIDL2: 0; WGLEAK1: 0; WGLEAK2: 0; WGLEAK3: 0; WGLEAK6: 0; WGLKB1: 0; WGLKB2: 0; WGLKSD1: 0; WGLKSD2: 0; WIBPC1: 0; WIBPC2: 0; WJS0: 0; WJS0D: 0; WJS0S: 0; WJS0SW: 0; WJS0SWD: 0; WJS0SWS: 0; WL: 0; WL1: 0; WL1P: 1; WL2: 0; WL2P: 1; WLD: 0; WLN: 0; WMAX: 1; WMIN: 0; WMUECB0: 0; WMUECB1: 0; WMUEPH1: 0; WMUESR1: 0; WMUESTI1: 0; WMUESTI2: 0; WMUESTI3: 0; WMUETMP: 0; WNDEP: 0; WNFALP: 0; WNFTRP: 0; WNINV: 0; WNJ: 0; WNJD: 0; WNJS: 0; WNOVER: 0; WNOVERS: 0; WNPEXT: 0; WNSTI: 0; WNSUBC: 0; WNSUBP: 0; WNSUBPSTI1: 0; WNSUBPSTI2: 0; WNSUBPSTI3: 0; WPGD1: 0; WPOWRAT: 0; WRD: 0; WRD22: 0; WRD23: 0; WRD24: 0; WRDICT1: 0; WRDOV13: 0; WRDSLP1: 0; WRDVB: 0; WRDVD: 0; WRDVG11: 0; WRS: 0; WRTH0: 0; WSC1: 0; WSC2: 0; WSC3: 0; WSCP1: 0; WSCP2: 0; WSCP3: 0; WSCSTI1: 0; WSCSTI2: 0; WSTI: 0; WSTIL: 0; WSTILP: 1; WSTIW: 0; WSTIWP: 1; WSUB1: 0; WSUB2: 0; WSVBS: 0; WSVDS: 0; WSVGS: 0; WVDIFFJ: 0; WVDIFFJD: 0; WVDIFFJS: 0; WVFBC: 0; WVFBOVER: 0; WVMAX: 0; WVOVER: 0; WVTH0: 0; WVTHSTI: 0; WVTMP: 0; WWFC: 0; WWL2: 0; WWSTI: 0; WWVTH0: 0; XL: 0; XLD: 0; XLDLD: 1e-06; XPDV: 0; XPVDTH: 0; XPVDTHG: 0; XQY: 0; XQY1: 0; XQY2: 2; XTI: 2; XTI2: 0; XTI2D: 0; XTI2S: 0; XTID: 2; XTIS: 2; XW: 0; XWD: 0; XWDC: 0; XWDLD: 0
simulation model PMOSFET_HISIM_HV2 (HISIM_HV2 v2.2.0)
pins: 1 D, 2 G, 3 S, 4 B

## MOSFET P-ch VDMOS
designator M?, comment P-channel Power MOSFET VDMOS Model  (value not drawn)
XTI: 0; A: 1; BV: 1e30; EG: 1.11; FC: 0.5; IBV: 1e-10; IS: 1e-14; PHI: 0.6; TNOM: 27; VJ: 0.8; SimulationGenericComponent: True; CGDMAX: 0; CGDMIN: 0; CGS: 0; CJO: 0; KP: 1; KSUBTHRES: 0; LAMBDA: 0; M: 0.5; MTRIODE: 1; N: 1; NBV: 1; NCHAN: 1; PCHAN: 1; RB: 0; RD: 0; RDS: 1e30; RG: 0; RQ: 0; RS: 0; SUBSHIFT: 0; SUBSLOPE: 0; THETA: 0; TT: 0; VQ: 0; VTO: 0
simulation model VDMOS_Pchan (Power MOS model P-chanel VDMOS)
pins: 1 D, 2 G, 3 S

## Mutual Inductance
designator K?, comment Coupling Factor: 0.9  Inductor List: Inductance L1 L2 L3  (hidden comment: Mutual Inductance with List of inductors)
SimulationGenericComponent: True
simulation model K_Mutual (Coupled Inductors)

## OpAmp
designator U?, comment GAIN: 1Meg  (hidden comment: Ideal Operational Amplifier)
SimulationGenericComponent: True
simulation model IDEALOPAMP_3NODES (OPAMPS)
pins: 1 IN-, 2 IN+, 3 OUT

## OpAmp with power terminals
designator U?, comment GAIN: 1Meg  (hidden comment: Ideal Operational Amplifier)
SimulationGenericComponent: True
simulation model IDEALOPAMP_5NODES (------------------------)
pins: 1 IN-, 2 IN+, 3 OUT, 4 V+ (power), 5 V- (power)

## Pentode
designator X?  (value not drawn)
MU: 39.01; EX: 0.925; KG1: 228.9; KG2: 4500; KP: 50.26; KVB: 21.2; VCT: 0.00; RGI: 2000; CCG: 6.7p; CPG1: 0.6p; CCP: 4.1p; SimulationGenericComponent: True
simulation model PENTODE
pins: 1, 2, 3, 4

## Photodiode
designator D?  (value not drawn)
RESP: 0.5; Rint: 10m; IS: 1N; N: 1.35; CJO: 60P; BV: 60; SimulationGenericComponent: True
simulation model PHOTODIODE
pins: 1 A, 2 K, 3 in

## PID Controller
designator U?  KP: 0  (hidden comment: PID Controller)
SimulationGenericComponent: True; KI: 0; KD: 0
simulation model PID_CONTROLLER (Model Description)
pins: 1, 2, 3
text: P; I; D

## Potentiometer
designator X?  (value not drawn)
value: 1k; position: 0.5; SimulationGenericComponent: True
simulation model POT (POTENTIOMETER)
pins: 1 TOP, 2 BOT, 3 TAP

## PSK
designator U?, comment Potentiometer  (value not drawn)
Phase-Shift Keying Modulator; WMAG: 1; NC: 4; TB: 10U; SimulationGenericComponent: True
simulation model PSK (-----------------------------------------------)
pins: 1 IN, 2 OUT

## PSPICE AND
designator AND?, comment PSPICE AND logic gate  (value not drawn)
SimulationGenericComponent: True; MNTYMXDLY: 0; IO_LEVEL: 0
simulation model PSPICE_AND (Model Description)
pins: 1 IN1, 2 IN2, 3 OUT

## PSPICE AND3
designator AND?, comment PSPICE tristate AND logic gate  (value not drawn)
IO_LEVEL: 0; SimulationGenericComponent: True; MNTYMXDLY: 0
simulation model PSPICE_AND3 (Model Description)
pins: 1 IN1, 2 IN2, 3 EN, 4 OUT

## PSPICE BUF
designator BUF?, comment PSPICE digital buffer  (value not drawn)
IO_LEVEL: 0; SimulationGenericComponent: True; MNTYMXDLY: 0
simulation model PSPICE_BUF (Model Description)
pins: 1 IN, 2 OUT

## PSPICE BUF3
designator BUF?, comment PSPICE tristate digital buffer  (value not drawn)
SimulationGenericComponent: True; MNTYMXDLY: 0; IO_LEVEL: 0
simulation model PSPICE_BUF3 (Model Description)
pins: 1 IN, 2 EN, 3 OUT

## PSPICE INV
designator INV?, comment PSPICE digital invertor  (value not drawn)
IO_LEVEL: 0; SimulationGenericComponent: True; MNTYMXDLY: 0
simulation model PSPICE_INV (Model Description)
pins: 1 IN, 2 OUT

## PSPICE INV3
designator INV?, comment PSPICE tristate digital invertor  (value not drawn)
SimulationGenericComponent: True; IO_LEVEL: 0; MNTYMXDLY: 0
simulation model PSPICE_INV3 (Model Description)
pins: 1 IN, 2 EN, 3 OUT

## PSPICE NAND
designator NAND?, comment PSPICE NAND logic gate  (value not drawn)
IO_LEVEL: 0; SimulationGenericComponent: True; MNTYMXDLY: 0
simulation model PSPICE_NAND (Model Description)
pins: 1 IN1, 2 IN2, 3 OUT

## PSPICE NAND3
designator NAND?, comment PSPICE tristate NAND logic gate  (value not drawn)
IO_LEVEL: 0; SimulationGenericComponent: True; MNTYMXDLY: 0
simulation model PSPICE_NAND3 (Model Description)
pins: 1 IN1, 2 IN2, 3 EN, 4 OUT

## PSPICE NOR
designator NOR?, comment PSPICE NOR logic gate  (value not drawn)
IO_LEVEL: 0; SimulationGenericComponent: True; MNTYMXDLY: 0
simulation model PSPICE_NOR (Model Description)
pins: 1, 2, 3

## PSPICE NOR3
designator NOR?, comment PSPICE tristate NOR logic gate  (value not drawn)
IO_LEVEL: 0; SimulationGenericComponent: True; MNTYMXDLY: 0
simulation model PSPICE_NOR3 (Model Description)
pins: 1 IN1, 2 IN2, 3 EN, 4 OUT

## PSPICE NXOR
designator NXOR?, comment PSPICE NXOR logic gate  (value not drawn)
IO_LEVEL: 0; SimulationGenericComponent: True; MNTYMXDLY: 0
simulation model PSPICE_NXOR (Model Description)
pins: 1 IN1, 2 IN2, 3 OUT

## PSPICE NXOR3
designator NXOR?, comment PSPICE tristate NXOR logic gate  (value not drawn)
SimulationGenericComponent: True; IO_LEVEL: 0; MNTYMXDLY: 0
simulation model PSPICE_NXOR3 (Model Description)
pins: 1 IN1, 2 IN2, 3 EN, 4 OUT

## PSPICE OR
designator OR?, comment PSPICE OR logic gate  (value not drawn)
IO_LEVEL: 0; SimulationGenericComponent: True; MNTYMXDLY: 0
simulation model PSPICE_OR (Model Description)
pins: 1 IN1, 2 IN2, 3 OUT

## PSPICE OR3
designator OR?, comment PSPICE tristate OR logic gate  (value not drawn)
SimulationGenericComponent: True; IO_LEVEL: 0; MNTYMXDLY: 0
simulation model PSPICE_OR3 (Model Description)
pins: 1 IN1, 2 IN2, 3 EN, 4 OUT

## PSPICE STIM
designator DSTM?, comment signal: "0s 0"  (hidden comment: PSPICE digital stimulus generator)
SimulationGenericComponent: True; IO_LEVEL: 0
simulation model DSTIM (Model Description)
pins: 1 OUT

## PSPICE XOR
designator XOR?, comment PSPICE XOR logic gate  (value not drawn)
IO_LEVEL: 0; SimulationGenericComponent: True; MNTYMXDLY: 0
simulation model PSPICE_XOR (Model Description)
pins: 1 IN1, 2 IN2, 3 OUT

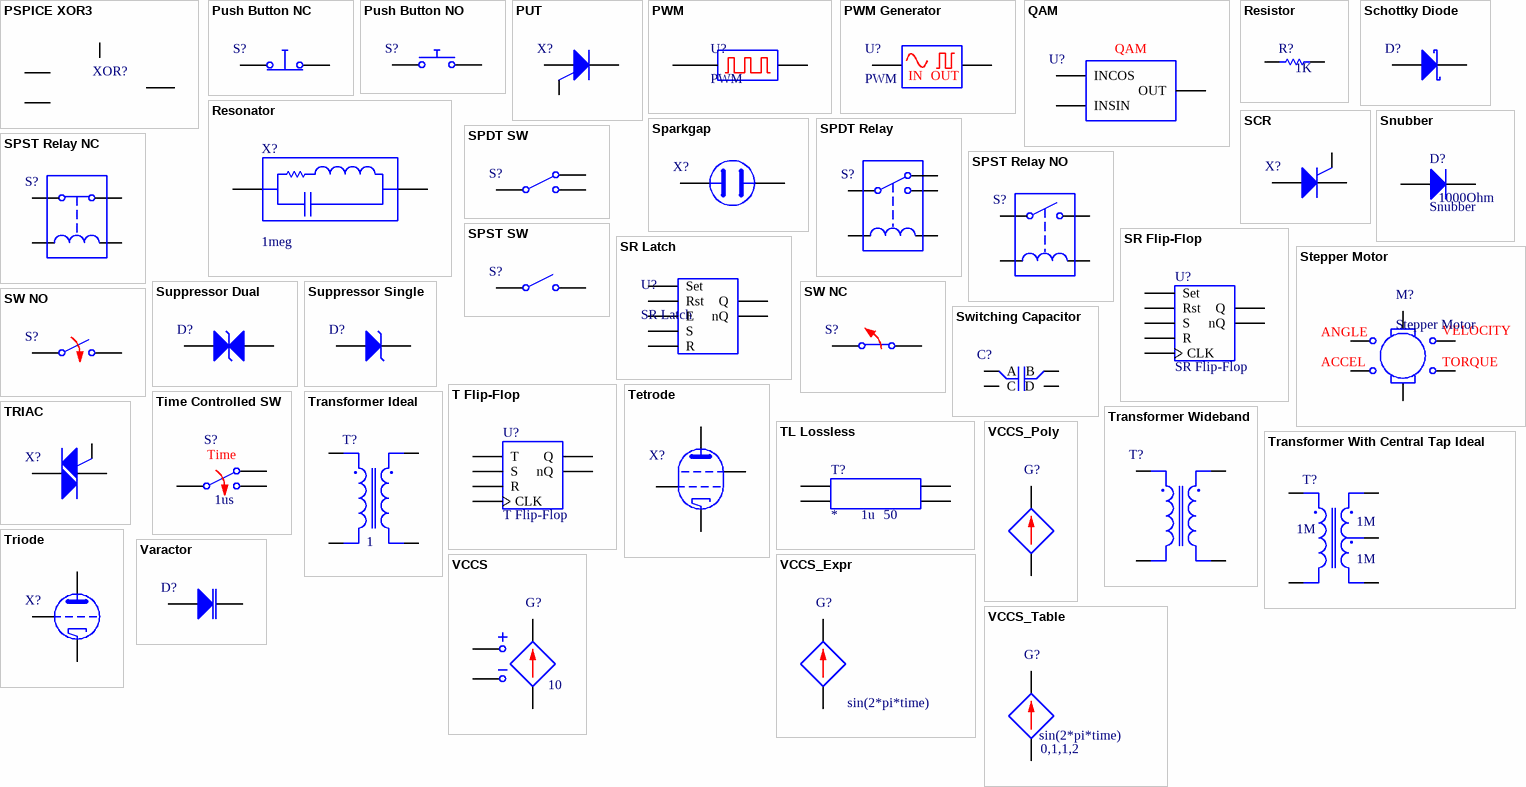
[diagram p4: symbols PSPICE XOR3 to VCCS_Table]

## PSPICE XOR3
designator XOR?, comment PSPICE tristate XOR logic gate  (value not drawn)
IO_LEVEL: 0; SimulationGenericComponent: True; MNTYMXDLY: 0
simulation model PSPICE_XOR3 (Model Description)
pins: 1 IN1, 2 IN2, 3 EN, 4 OUT

## Push Button NC
designator S?, comment Push Button Normally Closed  (value not drawn)
closed: 1; Rclosed: 1m; Ropen: 1Meg; SimulationGenericComponent: True
simulation model PUSH_BUTTON_NC (Push Button Normally Closed)
pins: 1, 2

## Push Button NO
designator S?, comment Push Button Normally Opened  (value not drawn)
closed: 0; Rclosed: 1m; Ropen: 1Meg; SimulationGenericComponent: True
simulation model PUSH_BUTTON_NO (Switches & Buttons)
pins: 1, 2

## PUT
designator X?, comment PUT Thyristror  (value not drawn)
IH: 50M; IGT: 40M; TON: 1U; VTMIN: 1; VDRM: 50; DVDT: 1E8; TQ: 30U; K1: 1.0; SimulationGenericComponent: True; K2: 1.0
simulation model PUT (PUT Thyristror)
pins: 1 A, 2 K, 3

## PWM
designator U?
Pulse Width Modulation Generator; MODHIGH: 1; MODLOW: 0; MODFREQ: 1K; SimulationGenericComponent: True; PWMHIGH: 1; PWMLOW: 0
simulation model PWM
pins: 1 in, 2 out

## PWM Generator
designator U?, comment PWM
Pulse Width Modulation Generator; MODHIGH: 1; MODLOW: 0; MODFREQ: 1K; SimulationGenericComponent: True; PWMHIGH: 1; PWMLOW: 0
simulation model PWM
pins: 1 IN, 2 OUT

## QAM
designator U?, comment Quadrature Amplitude Modulation Generator  (value not drawn)
F0: 1MEG; SimulationGenericComponent: True
simulation model QAM
pins: 1 INCOS, 2 INSIN, 3 OUT

## Resistor
designator R?  value 1K  (hidden comment: Resistor)
TC1: 0; SimulationGenericComponent: True; TC2: 0
simulation model R_Resistor_Default (Model Description)
pins: 1, 2

## Resonator
designator X?  F0: 1meg  (hidden comment: Resonator)
Lin: 1m; Q0: 20; SimulationGenericComponent: True
simulation model RESONATOR
pins: 1, 2

## Schottky Diode
designator D?  (value not drawn)
AF: 1; BV: 0; BV_MAX: 1e99; EG: 1.11; FC: 0.5; IBV: 0.001; IS: 1e-14; MJSW: 0.33; NTUN: 30; TNOM: 27; XTI: 3; SimulationGenericComponent: True; CJO: 0; CJP: 0; CTA: 0; CTP: 0; FCS: 0.5; FV_MAX: 1e99; IKF: 0; IKR: 0; ISR: 1e-14; JSW: 0; JTUN: 0; JTUNSW: 0; KEG: 1; KF: 0; LEVEL: 1; N: 1; NBV: 1; NR: 1; NS: 1; PHP: 1; RS: 0; TCV: 0; TLEV: 0; TLEVC: 0; TM1: 0; TM2: 0; TPB: 0; TPHP: 0; TRS: 0; TRS2: 0; TT: 0; TTT1: 0; TTT2: 0; VJ: 1; XTITUN: 3
simulation model diode (Diodes)
pins: 1 A, 2 K

## SCR
designator X?, comment SCR Thyristror  (value not drawn)
IH: 50MA; IGT: 40MA; TON: 1US; VTMIN: 1V; VDRM: 50V; DVDT: 50MEG; TQ: 20US; K1: 1; SimulationGenericComponent: True; K2: 1
simulation model SCR (SCR Thyristror)
pins: 1 A, 2 K, 3

## Snubber
designator D?  RSNUB: 1000Ohm
CSNUB: 0.1Uu; SimulationGenericComponent: True
simulation model SNUBBER
pins: 1 A, 2 K

## Sparkgap
designator X?, comment Spark Gap  (value not drawn)
VTHRES: 90; VARC: 10; ISUS: 500M; RNEG: -1; LPL: 130N; RPL: 2K; CPAR: 1P; CARC: 3P; SimulationGenericComponent: True
simulation model SPARKGAP (Sparkgap)
pins: 1, 2

## SPDT Relay
designator S?, comment Single-Pole, Double-Throw Relay  (value not drawn)
L_C: 1u; R_C: 100; RON: 1; ROFF: 1e12; ION: 1m; IOFF: 0; SimulationGenericComponent: True
simulation model SPDT_RELAY (SPDT_RELA)
pins: 1, 2, 3, 4, 5

## SPDT SW
designator S?, comment Single-Pole, Double-Throw Switch  (value not drawn)
nodeUP_closed: 1; Rclosed: 1m; Ropen: 1Meg; SimulationGenericComponent: True
simulation model SPDT_SWITCH
pins: 1, 2, 3

## SPST Relay NC
designator S?, comment Single-Pole, Single-Throw Normally Closed Relay  (value not drawn)
L_C: 1u; R_C: 100; RON: 1; ROFF: 1e12; ION: 1m; IOFF: 0; SimulationGenericComponent: True
simulation model SPST_RELAY_NC
pins: 1, 2, 3, 4

## SPST Relay NO
designator S?, comment Single-Pole, Single-Throw Normally Opened Relay  (value not drawn)
L_C: 1u; R_C: 100; RON: 1; ROFF: 1e12; ION: 1m; IOFF: 0; SimulationGenericComponent: True
simulation model SPST_RELAY_NO
pins: 1, 2, 3, 4

## SPST SW
designator S?, comment Single-Pole, Single-Throw Switch  (value not drawn)
closed: 0; Rclosed: 1m; Ropen: 1Meg; SimulationGenericComponent: True
simulation model SPST_SWITCH (-------------------------)
pins: 1, 2

## SR Flip-Flop
designator U?
SimulationGenericComponent: True; clk_delay_inst: 1n; sr_load_inst: 1p; set_delay_inst: 1n; reset_delay_inst: 1n; clk_load_inst: 1p; set_load_inst: 1p; reset_load_inst: 1p; rise_delay_inst: 1n; fall_delay_inst: 1n
simulation model sr_flip_flop (Model Description)
pins: 1 Set, 2 Rst, 3 S, 4 R, 5 CLK, 6 Q, 7 nQ

## SR Latch
designator U?
Digital SR Latch; SimulationGenericComponent: True; sr_delay_inst: 1n; sr_load_inst: 1p; enable_delay_inst: 1n; set_delay_inst: 1n; reset_delay_inst: 1n; enable_load_inst: 1p; set_load_inst: 1p; reset_load_inst: 1p; rise_delay_inst: 1n; fall_delay_inst: 1n
simulation model sr_latch (Model Description)
pins: 1 Set, 2 Rst, 3 E, 4 S, 5 R, 6 Q, 7 nQ

## Stepper Motor
designator M?
K: .004545; KD: 120E-9; RS: 227; LS: 55MH; STEP_ANGLE: 18; TD: 1E-6; JMOTOR: 3.5E-9; JLOAD: 0; LIMIT: 5; HARDNESS: 0.1; SimulationGenericComponent: True; TLOAD: 0
simulation model STEPPER_MOTOR
pins: 1, 2, 3, 4, 5, 6
text: ANGLE; VELOCITY; ACCEL; TORQUE

## Suppressor Dual
designator D?  (value not drawn)
area: 1; temp: 27; dtemp: 0; EG: 1.11; FC: 0.5; IBV: 100p; IS: 10f; NTUN: 30; XTITUN: 3; MJSW: 0.33; BV_MAX: 1e99; SimulationGenericComponent: True; m: 1; pj: 1; AF: 1; BV: 0; CJO: 0; IBVL: 0; IKF: 0; IKR: 0; JSW: 0; JTUN: 0; JTUNSW: 0; KEG: 1; CJP: 0; FCS: 0.5; PHP: 1; ISR: 0; KF: 0; N: 1; NBV: 1; NBVL: 1; NR: 1; NS: 1; RS: 0; TBV1: 0; TBV2: 0; TIKF: 0; TRS1: 0; TRS2: 0; TT: 0; VJ: 1; XTI: 3; TNOM: 27; TM1: 0; TM2: 0; TTT1: 0; TTT2: 0; TLEV: 0; TLEVC: 0; CTA: 0; CTP: 0; TCV: 0; TVJ: 0; TPHP: 0; FV_MAX: 1e99
simulation model DUAL_DIODE
pins: 1, 2

## Suppressor Single
designator D?  (value not drawn)
AF: 1; BV: 0; BV_MAX: 1e99; EG: 1.11; FC: 0.5; IBV: 0.001; IS: 1e-14; MJSW: 0.33; NTUN: 30; TNOM: 27; XTI: 3; SimulationGenericComponent: True; CJO: 0; CJP: 0; CTA: 0; CTP: 0; FCS: 0.5; FV_MAX: 1e99; IKF: 0; IKR: 0; ISR: 1e-14; JSW: 0; JTUN: 0; JTUNSW: 0; KEG: 1; KF: 0; LEVEL: 1; N: 1; NBV: 1; NR: 1; NS: 1; PHP: 1; RS: 0; TCV: 0; TLEV: 0; TLEVC: 0; TM1: 0; TM2: 0; TPB: 0; TPHP: 0; TRS: 0; TRS2: 0; TT: 0; TTT1: 0; TTT2: 0; VJ: 1; XTITUN: 3
simulation model diode (Diodes)
pins: 1 A, 2 K

## SW NC
designator S?, comment Switch Normally Closed  (value not drawn)
closed: 1; Rclosed: 1m; Ropen: 1Meg; SimulationGenericComponent: True
simulation model SPST_SWITCH
pins: 1, 2

## SW NO
designator S?, comment Switch Normally Opened  (value not drawn)
closed: 0; Rclosed: 1m; Ropen: 1Meg; SimulationGenericComponent: True
simulation model SPST_SWITCH
pins: 1, 2

## Switching Capacitor
designator C?  (value not drawn)
CVALUE: 10P; FSAMPLE: 100KHZ; ROFF: 1E6; RON: 1; SimulationGenericComponent: True
simulation model SWITCHCAP4 (Model Description)
pins: 1 A, 2 B, 3 C, 4 D

## T Flip-Flop
designator U?
Digital T Flip-Flop; SimulationGenericComponent: True; clk_delay_inst: 1n; t_load_inst: 1p; set_delay_inst: 1n; reset_delay_inst: 1n; clk_load_inst: 1p; set_load_inst: 1p; reset_load_inst: 1p; rise_delay_inst: 1n; fall_delay_inst: 1n
simulation model toggle_flip_flop (Model Description)
pins: 1 T, 2 S, 3 R, 4 Q, 5 nQ, 6 CLK

## Tetrode
designator X?  (value not drawn)
MU: 40.881; EX: 645.155m; KG1: 20.02; KG2: 437.262; KP: 27.399; KVB: 58.685; CCG: 16P; CPG1: .03P; CCP: 4.4P; RGI: 2K; SimulationGenericComponent: True
simulation model TETRODE
pins: 1, 2, 3, 4

## Time Controlled SW
designator S?, comment ttran: 1us  (hidden comment: Time Controlled Switch)
Rclosed: 1m; Ropen: 1Meg; tSwitch: 0; SimulationGenericComponent: True
simulation model SPDT_TIME_CONTROLLED_SWITCH
pins: 1, 2, 3
text: Time

## TL Lossless
designator T?  Char. Impedance: 50  Transmission Delay: 1u
Lossless Transmission Line; SimulationGenericComponent: True
simulation model T_Lossless_Line (Model Description)
pins: 1, 2, 3, 4

## Transformer Ideal
designator T?, comment GAIN: 1  (hidden comment: Ideal Transformer)
SimulationGenericComponent: True
simulation model IDEAL_TRANSFORMER (Transformers and Coupled Inductors)
pins: 1, 2, 3, 4

## Transformer Wideband
designator T?, comment Wideband Transformer  (value not drawn)
RS: 10; N: 1; FL: 1K; FH: 10MEG; SimulationGenericComponent: True
simulation model WIDEBAND_TRANSFORMER
pins: 1, 2, 3, 4

## Transformer With Central Tap Ideal
designator T?, comment L1: 1M  (hidden comment: Ideal Transformer With Central Tap)
SimulationGenericComponent: True; L2: 1M; L3: 1M
simulation model IDEAL_CENTAP
pins: 1, 2, 3, 4, 5

## TRIAC
designator X?, comment TRIAC Thyristror  (value not drawn)
IH: 50MA; IGT: 40MA; TON: 1US; VTMIN: 1V; VDRM: 50V; DVDT: 50MEG; TQ: 20US; K1: 1; SimulationGenericComponent: True; K2: 1
simulation model TRIAC (TRIAC Thyristror)
pins: 1 A, 2 K, 3

## Triode
designator X?  (value not drawn)
K: 5M; MU: .05; CGP: 10P; SimulationGenericComponent: True; CGC: 10P; CPC: 10P
simulation model TRIODE (Tubes)
pins: 1, 2, 3

## Varactor
designator D?  (value not drawn)
AF: 1; BV: 0; BV_MAX: 1e99; EG: 1.11; FC: 0.5; IBV: 0.001; IS: 1e-14; MJSW: 0.33; NTUN: 30; TNOM: 27; XTI: 3; SimulationGenericComponent: True; CJO: 0; CJP: 0; CTA: 0; CTP: 0; FCS: 0.5; FV_MAX: 1e99; IKF: 0; IKR: 0; ISR: 1e-14; JSW: 0; JTUN: 0; JTUNSW: 0; KEG: 1; KF: 0; LEVEL: 1; N: 1; NBV: 1; NR: 1; NS: 1; PHP: 1; RS: 0; TCV: 0; TLEV: 0; TLEVC: 0; TM1: 0; TM2: 0; TPB: 0; TPHP: 0; TRS: 0; TRS2: 0; TT: 0; TTT1: 0; TTT2: 0; VJ: 1; XTITUN: 3
simulation model diode (Diodes)
pins: 1 K, 3 A

## VCCS
designator G?, comment Gain: 10  (hidden comment: Voltage Controlled Current Source)
SimulationGenericComponent: True
simulation model Ggain (Model Description)
pins: 1, 2, 3, 4

## VCCS_Expr
designator G?, comment Expression: sin(2*pi*time)  (hidden comment: Voltage Controlled Current Source with an Arbitrary Expression)
SimulationGenericComponent: True
simulation model Gvalue (Model Description)
pins: 1, 2

## VCCS_Poly
designator G?, comment Voltage Controlled Current Source with SPICE POLY function  (value not drawn)
SimulationGenericComponent: True; Order: 1; Node Names: (1,0); Coefficients List: 0 1
simulation model Gpoly (Model Description)
pins: 1, 2

## VCCS_Table
designator G?, comment Expression: sin(2*pi*time)  Table: 0,1,1,2  (hidden comment: Voltage Controlled Current Source with Table function)
SimulationGenericComponent: True
simulation model Gtable (Model Description)
pins: 1, 2

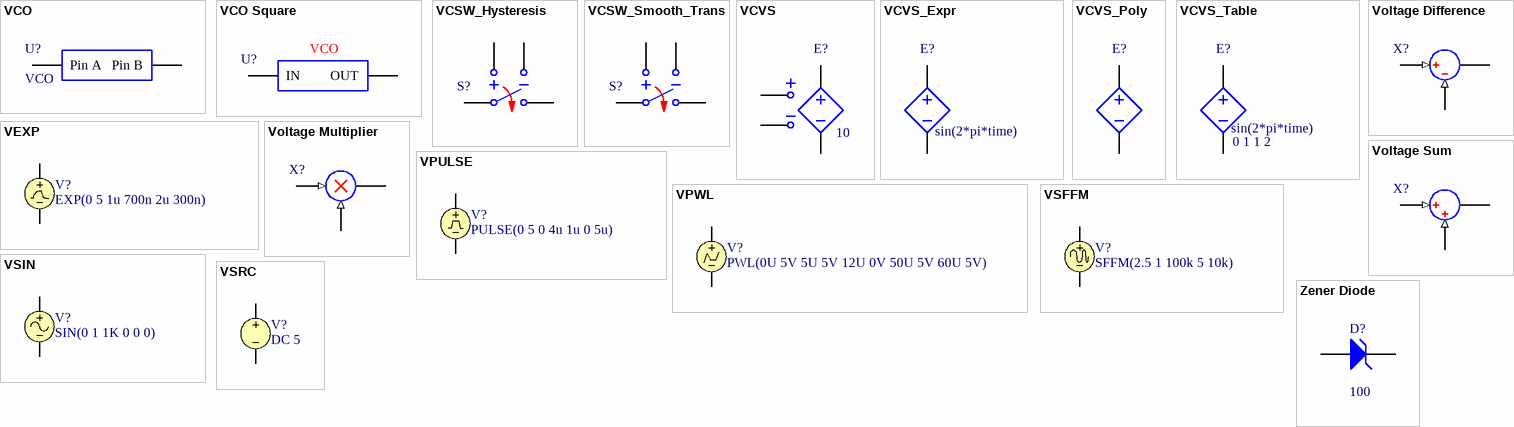
[diagram p5: symbols VCO to Zener Diode]

## VCO
designator U?
Voltage Controlled Oscillator; VP: 1; F0: 1MEG; KF: .1MEG; SimulationGenericComponent: True
simulation model VCO
pins: 1 Pin A, 2 Pin B

## VCO Square
designator U?, comment Voltage Controlled Square Wave Oscillator  (value not drawn)
VH: 1; VL: 0; F0: 1MEG; KF: .1MEG; SimulationGenericComponent: True
simulation model VCO_SQUARE
pins: 1 IN, 2 OUT
text: VCO

## VCSW_Hysteresis
designator S?, comment Voltage Controlled Switch with Hysteresis  (value not drawn)
Initial Condition: ON; ROFF: 1Meg; RON: 1; VH: 0; SimulationGenericComponent: True; VT: 0
simulation model Voltage_Controlled_Switch_Hysteresis (VOLTAGE_CONTROLLED_SWITCH_HYSTERESIS)
pins: 1, 2, 3, 4

## VCSW_Smooth_Trans
designator S?, comment Voltage Controlled Switch with Smooth Transition  (value not drawn)
ROFF: 1Meg; RON: 1; VOFF: 0; SimulationGenericComponent: True; VON: 1
simulation model Voltage_Controlled_Switch_Smooth_Trans (VOLTAGE_CONTROLLED_SWITCH_HYSTERESIS)
pins: 1, 2, 3, 4

## VCVS
designator E?, comment Gain: 10  (hidden comment: Voltage Controlled Voltage Source)
SimulationGenericComponent: True
simulation model Egain (Model Description)
pins: 1, 2, 3, 4

## VCVS_Expr
designator E?, comment Expression: sin(2*pi*time)  (hidden comment: Voltage Controlled Voltage Source with an Arbitrary Expression)
SimulationGenericComponent: True
simulation model Evalue (Model Description)
pins: 1, 2

## VCVS_Poly
designator E?, comment Voltage Controlled Voltage Source with SPICE POLY function  (value not drawn)
SimulationGenericComponent: True; Order: 1; Node Names: (1,0); Coefficients List: 0 1
simulation model Epoly (Model Description)
pins: 1, 2

## VCVS_Table
designator E?, comment Expression: sin(2*pi*time)  Table: 0 1 1 2  (hidden comment: Voltage Controlled Voltage Source with Table function)
SimulationGenericComponent: True
simulation model Etable (Model Description)
pins: 1, 2

## VEXP
designator V?, comment EXP(0 5 1u 700n 2u 300n)
Exponential Voltage Source; Note: PCB Footprint - Not required; Initial Value: 0; Pulsed Value: 5; AC Magnitude: 1; Published: 8-Jun-2000; LatestRevisionDate: 15-Nov-2004; LatestRevisionNote: Corrected Netlist.; PackageReference: Not Applicable; Publisher: Altium Limited; Rise Delay Time: 1u; Rise Time Constant: 700n; Fall Delay Time: 2u; Fall Time Constant: 300n; DC Magnitude: 0; AC Phase: 0
simulation model VEXP
pins: 1, 2

## Voltage Difference
designator X?  (value not drawn)
SimulationGenericComponent: True
simulation model VOLTAGE_DIFF (Voltage Difference)
pins: 1 (in), 2 (in), 3

## Voltage Multiplier
designator X?  (value not drawn)
SimulationGenericComponent: True
simulation model VOLTAGE_MULT (Voltage Miltiplier)
pins: 1 (in), 2 (in), 3

## Voltage Sum
designator X?, comment Voltage Adder  (value not drawn)
SimulationGenericComponent: True
simulation model VOLTAGE_SUM
pins: 1 (in), 2 (in), 3

## VPULSE
designator V?, comment PULSE(0 5 0 4u 1u 0 5u)
Pulse Voltage Source; Note: PCB Footprint - Not required; Initial Value: 0; Pulsed Value: 5; AC Magnitude: 1; Published: 8-Jun-2000; LatestRevisionDate: 15-Nov-2004; LatestRevisionNote: Corrected Netlist.; PackageReference: Not Applicable; Publisher: Altium Limited; Rise Time: 4u; Fall Time: 1u; Pulse Width: 0; Period: 5u; DC Magnitude: 0; AC Phase: 0
simulation model VPULSE
pins: 1, 2

## VPWL
designator V?, comment PWL(0U 5V 5U 5V 12U 0V 50U 5V 60U 5V)
Piecewise Linear Voltage Source; Note: PCB Footprint - Not required; Sim Note: To add model file containing time-current pairs of values, enter model location under "General Tab" in "Full Path" box.; DC Magnitude: 0; AC Magnitude: 1; Published: 8-Jun-2000; LatestRevisionDate: 17-Jul-2002; LatestRevisionNote: Re-released for DXP Platform.; PackageReference: Not Applicable; Publisher: Altium Limited; Time-Value Pairs: 0U 5V 5U 5V 12U 0V 50U 5V 60U 5V; AC Phase: 0
simulation model VPWL
pins: 1, 2